# Altium schematic symbol library SCH - DAC - THS4521ID.SCHLIB: 1 symbol
Pins are listed as number, name and electrical type; pins without a type are passive.

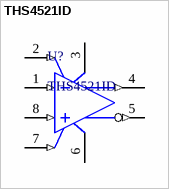
[diagram p0: symbol THS4521ID]

## THS4521ID
designator U?
Very Low Power Rail-to-Rail Output Fully Differential Amplifier, 2.5 to 5.5 V, -40 to 85 degC, 8-pin SOIC (D8), Green (RoHS & no Sb/Br); Manufacturer: Texas Instruments; Io(Typ)(mA): 55; Vs(Max)(V): 5.5; Iq per channel(Max)(mA): 1.25; Vn at Flatband(Typ)(nV/rtHz): 4.6; 2nd Harmonic(dBc): 133; Number of Channels: 1; Rail-Rail: Out; @ MHz: 0.01; Slew Rate(Typ)(V/us): 490; BW @ Acl(MHz): 145; Vs(Min)(V): 2.5; Vio(Max)(mV): 2; 3rd Harmonic(dBc): 140; ComponentLink2Description: Datasheet; Mounting Technology: Surface Mount; PackageReference: D0008A; ComponentLink1Description: Manufacturer URL; SubFamily: Fully Differential Amplifier; Eco-Plan: Green (RoHS & no Sb/Br); DatasheetVersion: SBOS458F; Code_JEDEC: MS-012; ComponentLink3URL: http://www.ti.com/litv/pdf/msoi002j; PartNumber: THS4521ID; PackageDescription: 8-Pin Plastic Small Outline, Body 4.9 x 3.9 mm, Pitch 1.27 mm; ComponentLink1URL: http://www.ti.com/; ComponentLink2URL: http://www.ti.com/general/docs/lit/getliterature.tsp?genericPartNumber=THS4521&fileType=pdf; ComponentLink3Description: Package Specification; PackageVersion: 4040047-3/M, 06/2011
footprint D0008A_N (SOIC, 8-Leads, Body 5x4mm, Pitch 1.27mm, IPC Medium Density)
footprint D0008A_L (SOIC, 8-Leads, Body 5x4mm, Pitch 1.27mm, IPC High Density)
footprint D0008A_M (SOIC, 8-Leads, Body 5x4mm, Pitch 1.27mm, IPC Low Density)
pins: 1 VIN- (in) "Inverting amplifier input", 2 VOCM (in) "Common-mode voltage input", 3 VS+ (power) "Amplifier positive power-supply input", 4 VOUT+ (out) "Noninverting amplifier output", 5 VOUT- (out) "Inverting amplifier output", 6 VS- (power) "Amplifier negative power-supply input. Note that VS- is tied together on multi-channel devices.", 7 ~{PD} (in) "Power down. P\D\ = logic low puts device into low-power mode. P\D\ = logic high or open for normal operation.", 8 VIN+ (in) "Noninverting amplifier input"